# Altium schematic symbol library rf_connectors.SchLib: 2 symbols
Pins are listed as number, name and electrical type; pins without a type are passive.

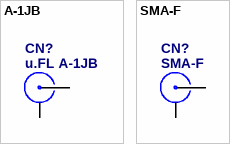
[diagram p0: symbols A-1JB to SMA-F]

## A-1JB
designator CN?, comment u.FL A-1JB
Amphenol A-1JB u.FL (IPX/AMC) Male Connector, 50Ohm; Supplier 1: Digi-Key; Supplier Part Number 1: ARF1579CT-ND
footprint A-1JB
pins: G, S

## SMA-F
designator CN?
Female THT SMA Connector; Supplier 1: TME; Supplier 2: Farnell; Supplier Part Number 1: 5-1814832-1; Supplier Part Number 2: 1248990
footprint 5-1814832-1 (SMA Female THT Connectos, TE Connectivity)
pins: G, S